# Altium footprint library SC_SOT89.PcbLib: 1 footprints
Each footprint in its own frame and in the unit in brackets; x right, y up, seen from the top. Pads: shape width x height; smd on the part's side, far side on the other; paste and mask are expansions set on the pad; w line width, h text height; cw(c..) or ccw(c..) is an arc to the next point about the centre after c.
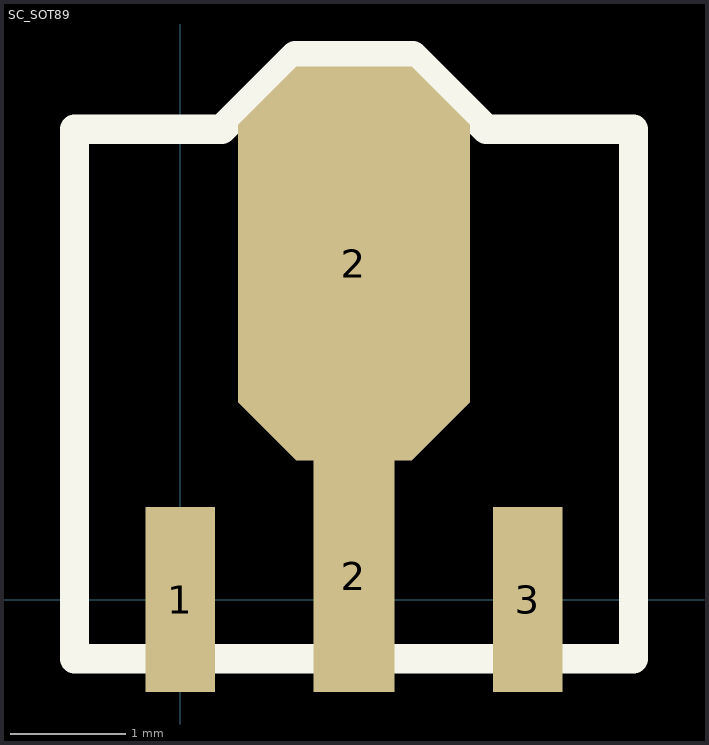
[diagram p0: the footprint, top view; thin cyan lines are the x and y axes]

## SC_SOT89 [mm] "SOT89, 3-Leads, Body 4.5x2.4 mm, Pitch 1.5mm, Lead Span 4.1mm, IPC Low Density"
height 1.6
pads (4):
  rect 0.6x1.6 smd: 1(0,0) 3(3,0)
  rect 0.7x2 smd: 2(1.5,0.2)
  oct 2x3.4 smd: 2(1.5,2.9)
Top Overlay:
  lines w0.254: -0.913,-0.513 -0.913,4.059 0.357,4.059 0.992,4.694 2.008,4.694 2.643,4.059 3.913,4.059 3.913,-0.513 -0.913,-0.513
3D body: height 1.6, standoff -0.01, extent -0.819,-0.281 3.782,3.97